# Altium footprint library Juricic_Ivan.PcbLib: 1 footprints
Each footprint in its own frame and in the unit in brackets; x right, y up, seen from the top. Pads: shape width x height; smd on the part's side, far side on the other; paste and mask are expansions set on the pad; w line width, h text height; cw(c..) or ccw(c..) is an arc to the next point about the centre after c.
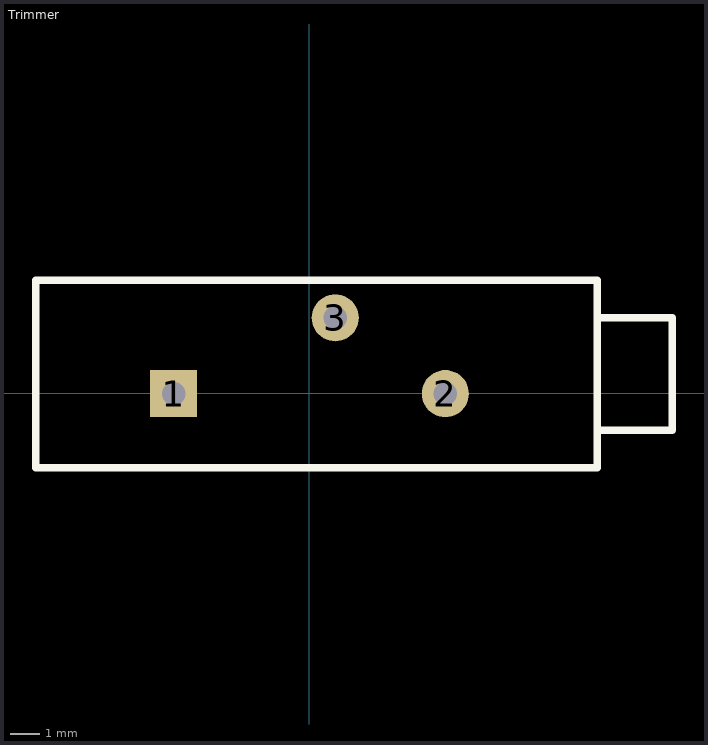
[diagram p0: the footprint, top view; thin cyan lines are the x and y axes]

## Trimmer [mm]
pads (3):
  rect 1.6x1.6 hole 0.8: 1(-4.61,-0.015)
  round 1.6 hole 0.8: 2(4.61,-0.015) 3(0.876,2.555)
Top Overlay:
  lines w0.254: 9.766,-1.255 12.306,-1.255 12.306,2.555 9.766,2.555 ; -9.284,-2.525 -9.284,3.825 9.766,3.825 9.766,-2.525 -9.284,-2.525